# EAGLE library part STM32F091VCH6 (library graftel-internal-ic)
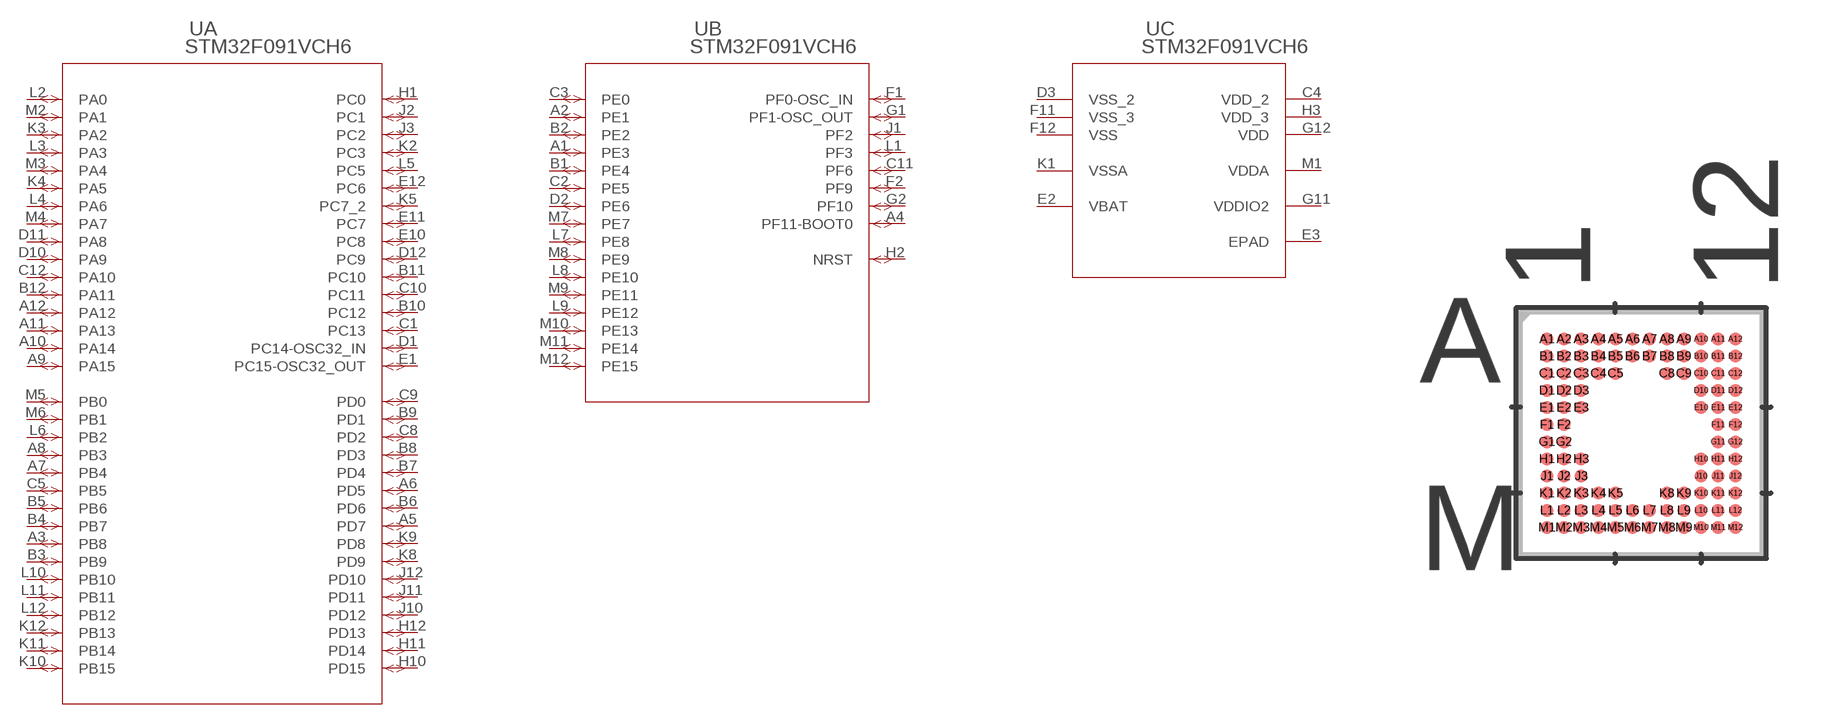
[diagram p87: symbol with the pads of UFBGA100-7X7MM; footprint UFBGA100-7X7MM]

Designator prefix U; gates A=STM32F091VCH_1 B=STM32F091VCH C=STM32F091VCH_00

## STM32F091VCH6 (BUILT_BY: EMA_UL_Team; COPYRIGHT: Copyright (C) 2018 Accelerated Designs. All rights reserved; MANUFACTURER_PART_NUMBER: STM32F091VCH6; SOURCELIBRARY: Updates_to_database_2020-10-19; VENDOR: STMicroelectronics)  [UFBGA100-7X7MM]
A1  B:PE3
A2  B:PE1
A3  A:PB8
A4  B:PF11-BOOT0
A5  A:PD7
A6  A:PD5
A7  A:PB4
A8  A:PB3
A9  A:PA15
A10  A:PA14
A11  A:PA13
A12  A:PA12
B1  B:PE4
B2  B:PE2
B3  A:PB9
B4  A:PB7
B5  A:PB6
B6  A:PD6
B7  A:PD4
B8  A:PD3
B9  A:PD1
B10  A:PC12
B11  A:PC10
B12  A:PA11
C1  A:PC13
C2  B:PE5
C3  B:PE0
C4  C:VDD_2  pwr
C5  A:PB5
C8  A:PD2
C9  A:PD0
C10  A:PC11
C11  B:PF6
C12  A:PA10
D1  A:PC14-OSC32_IN
D2  B:PE6
D3  C:VSS_2  pwr
D10  A:PA9
D11  A:PA8
D12  A:PC9
E1  A:PC15-OSC32_OUT
E2  C:VBAT  pwr
E3  C:EPAD  pas
E10  A:PC8
E11  A:PC7
E12  A:PC6
F1  B:PF0-OSC_IN
F2  B:PF9
F11  C:VSS_3  pwr
F12  C:VSS  pwr
G1  B:PF1-OSC_OUT
G2  B:PF10
G11  C:VDDIO2  pwr
G12  C:VDD  pwr
H1  A:PC0
H2  B:NRST
H3  C:VDD_3  pwr
H10  A:PD15
H11  A:PD14
H12  A:PD13
J1  B:PF2
J2  A:PC1
J3  A:PC2
J10  A:PD12
J11  A:PD11
J12  A:PD10
K1  C:VSSA  pwr
K2  A:PC3
K3  A:PA2
K4  A:PA5
K5  A:PC7_2
K8  A:PD9
K9  A:PD8
K10  A:PB15
K11  A:PB14
K12  A:PB13
L1  B:PF3
L2  A:PA0
L3  A:PA3
L4  A:PA6
L5  A:PC5
L6  A:PB2
L7  B:PE8
L8  B:PE10
L9  B:PE12
L10  A:PB10
L11  A:PB11
L12  A:PB12
M1  C:VDDA  pwr
M2  A:PA1
M3  A:PA4
M4  A:PA7
M5  A:PB0
M6  A:PB1
M7  B:PE7
M8  B:PE9
M9  B:PE11
M10  B:PE13
M11  B:PE14
M12  B:PE15

## Footprint UFBGA100-7X7MM (pad centres in mm)
smd 0.381 x 0.381: A1 -2.75,2.75; A2 -2.25,2.75; A3 -1.75,2.75; A4 -1.25,2.75; A5 -0.75,2.75; A6 -0.25,2.75; A7 0.25,2.75; A8 0.75,2.75; A9 1.25,2.75; A10 1.75,2.75; A11 2.25,2.75; A12 2.75,2.75; B1 -2.75,2.25; B2 -2.25,2.25; B3 -1.75,2.25; B4 -1.25,2.25; B5 -0.75,2.25; B6 -0.25,2.25; B7 0.25,2.25; B8 0.75,2.25; B9 1.25,2.25; B10 1.75,2.25; B11 2.25,2.25; B12 2.75,2.25; C1 -2.75,1.75; C2 -2.25,1.75; C3 -1.75,1.75; C4 -1.25,1.75; C5 -0.75,1.75; C8 0.75,1.75; C9 1.25,1.75; C10 1.75,1.75; C11 2.25,1.75; C12 2.75,1.75; D1 -2.75,1.25; D2 -2.25,1.25; D3 -1.75,1.25; D10 1.75,1.25; D11 2.25,1.25; D12 2.75,1.25; E1 -2.75,0.75; E2 -2.25,0.75; E3 -1.75,0.75; E10 1.75,0.75; E11 2.25,0.75; E12 2.75,0.75; F1 -2.75,0.25; F2 -2.25,0.25; F11 2.25,0.25; F12 2.75,0.25; G1 -2.75,-0.25; G2 -2.25,-0.25; G11 2.25,-0.25; G12 2.75,-0.25; H1 -2.75,-0.75; H2 -2.25,-0.75; H3 -1.75,-0.75; H10 1.75,-0.75; H11 2.25,-0.75; H12 2.75,-0.75; J1 -2.75,-1.25; J2 -2.25,-1.25; J3 -1.75,-1.25; J10 1.75,-1.25; J11 2.25,-1.25; J12 2.75,-1.25; K1 -2.75,-1.75; K2 -2.25,-1.75; K3 -1.75,-1.75; K4 -1.25,-1.75; K5 -0.75,-1.75; K8 0.75,-1.75; K9 1.25,-1.75; K10 1.75,-1.75; K11 2.25,-1.75; K12 2.75,-1.75; L1 -2.75,-2.25; L2 -2.25,-2.25; L3 -1.75,-2.25; L4 -1.25,-2.25; L5 -0.75,-2.25; L6 -0.25,-2.25; L7 0.25,-2.25; L8 0.75,-2.25; L9 1.25,-2.25; L10 1.75,-2.25; L11 2.25,-2.25; L12 2.75,-2.25; M1 -2.75,-2.75; M2 -2.25,-2.75; M3 -1.75,-2.75; M4 -1.25,-2.75; M5 -0.75,-2.75; M6 -0.25,-2.75; M7 0.25,-2.75; M8 0.75,-2.75; M9 1.25,-2.75; M10 1.75,-2.75; M11 2.25,-2.75; M12 2.75,-2.75